# EAGLE library part CD4066B (library 6301-temp-sensor-rev1)
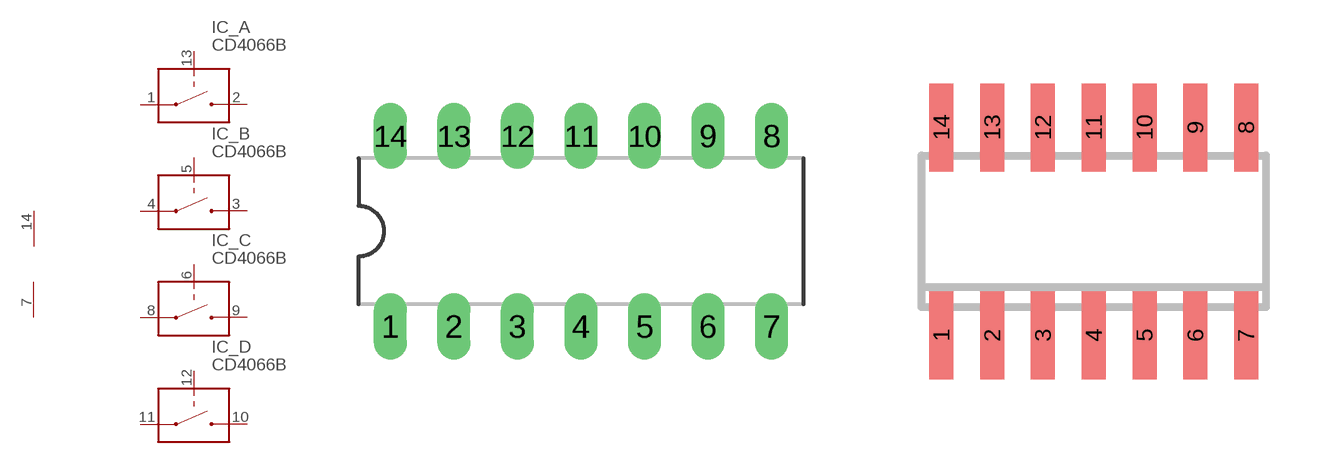
[diagram p4: symbol with the pads of DIL14; footprints DIL14, SO14]

Designator prefix IC; gates G$1=PWR+- _A=ANALOG_SW _B=ANALOG_SW _C=ANALOG_SW _D=ANALOG_SW

## CD4066BE (VALUE: CD4066BE)  [DIL14]
1  _A:IN/OUT1
2  _A:IN/OUT2
3  _B:IN/OUT2
4  _B:IN/OUT1
5  _B:CONTROL
6  _C:CONTROL
7  G$1:V-  pwr
8  _C:IN/OUT1
9  _C:IN/OUT2
10  _D:IN/OUT2
11  _D:IN/OUT1
12  _D:CONTROL
13  _A:CONTROL
14  G$1:V+  pwr

## CD4066BM  [SO14]
Pads as for DIL14

## Footprint DIL14 (pad centres in mm)
Dual In Line Package
drill 0.813 long: 1 -7.62,-3.81; 2 -5.08,-3.81; 3 -2.54,-3.81; 4 0,-3.81; 5 2.54,-3.81; 6 5.08,-3.81; 7 7.62,-3.81; 8 7.62,3.81; 9 5.08,3.81; 10 2.54,3.81; 11 0,3.81; 12 -2.54,3.81; 13 -5.08,3.81; 14 -7.62,3.81

## Footprint SO14 (pad centres in mm)
SMALL OUTLINE INTEGRATED CIRCUIT body 3.9 mm/JEDEC MS-012AC
smd 0.6 x 2.2: 1 -3.81,-2.6; 2 -2.54,-2.6; 3 -1.27,-2.6; 4 0,-2.6; 5 1.27,-2.6; 6 2.54,-2.6; 7 3.81,-2.6; 8 3.81,2.6; 9 2.54,2.6; 10 1.27,2.6; 11 0,2.6; 12 -1.27,2.6; 13 -2.54,2.6; 14 -3.81,2.6